# Altium footprint library USB.PcbLib: 19 footprints (part 2 of 2)
Each footprint in its own frame and in the unit in brackets; x right, y up, seen from the top. Pads: shape width x height; smd on the part's side, far side on the other; paste and mask are expansions set on the pad; w line width, h text height; cw(c..) or ccw(c..) is an arc to the next point about the centre after c.
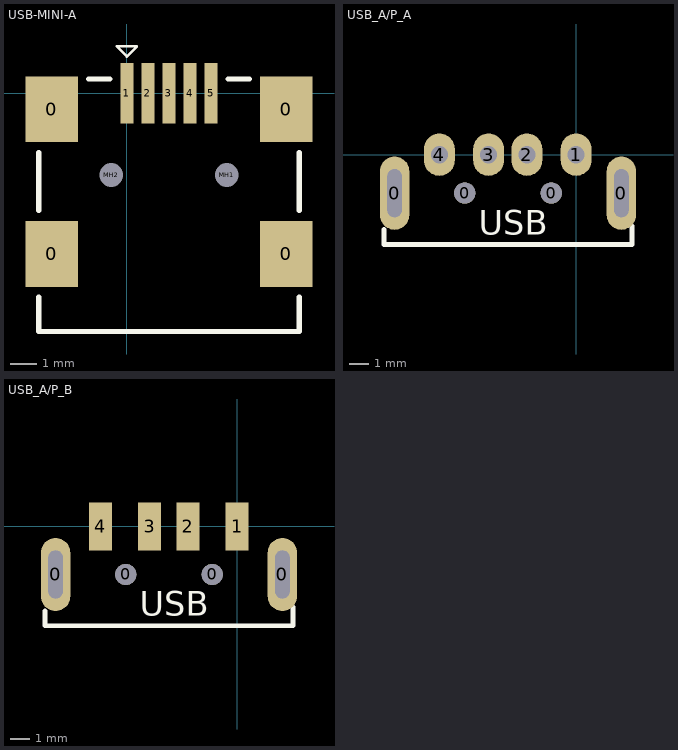
[diagram p1: the footprints below, top view; thin cyan lines are the x and y axes]

## USB-MINI-A [mm]
pads (11):
  rect 2x2.5 smd: 0(-2.85,-6.108) 0(-2.85,-0.608) 0(6.05,-6.108) 0(6.05,-0.608)
  rect 0.5x2.3 smd: 1(0,0) 2(0.8,0) 3(1.6,0) 4(2.4,0) 5(3.2,0)
  round 0.6 hole 0.9 unplated: MH1(3.8,-3.108) MH2(-0.6,-3.108)
Top Overlay:
  lines w0.1: -0.381,1.778 0.381,1.778 0,1.397 -0.381,1.778
  lines w0.2: -3.35,-7.758 -3.35,-9.058 6.55,-9.058 6.55,-7.758 ; -3.35,-4.458 -3.35,-2.258 ; -1.45,0.542 -0.65,0.542 ; 3.85,0.542 4.65,0.542 ; 6.55,-4.458 6.55,-2.258
3D body "USB-MINI-A.STEP": height 3.95, standoff -0.7, extent -3.175,-9.041 6.325,0.659

## USB_A/P_A [mm]
height 1.75
pads (8):
  oval 1.524x3.81 hole 0.762 slot 2.5 at 90 deg: 0(-9.443,-2) 0(2.357,-2)
  round 1.1 hole 1.1: 0(-5.793,-2) 0(-1.293,-2)
  oval 1.6x2.2 hole 0.9: 1(0,0) 2(-2.556,0) 3(-4.556,0) 4(-7.112,0)
Top Overlay:
  lines w0.254: -9.993,-3.9 -9.993,-4.667 2.907,-4.667 2.907,-3.7
  text "USB" at -5.067,-4.159 h1.27
3D body "USB_A_P-A.STEP": height 3.25, standoff -2.52, extent -10.033,-19.909 2.914,0.097

## USB_A/P_B [mm]
height 1.75
pads (8):
  oval 1.524x3.81 hole 0.762 slot 2.5 at 90 deg: 0(-9.443,-2.508) 0(2.357,-2.508)
  round 1.1 hole 1.1: 0(-5.793,-2.508) 0(-1.293,-2.508)
  rect 1.2x2.5 smd: 1(0,0) 2(-2.556,0) 3(-4.556,0) 4(-7.112,0)
Top Overlay:
  lines w0.254: -9.993,-4.408 -9.993,-5.175 2.907,-5.175 2.907,-4.208
  text "USB" at -5.067,-4.667 h1.27
3D body "USB_A_P-B.STEP": height 3.25, standoff -2.52, extent -9.906,-20.46 3.041,0.14